# Altium footprint library HFBR-x41xTZ.PcbLib: 1 footprints
Each footprint in its own frame and in the unit in brackets; x right, y up, seen from the top. Pads: shape width x height; smd on the part's side, far side on the other; paste and mask are expansions set on the pad; w line width, h text height; cw(c..) or ccw(c..) is an arc to the next point about the centre after c.
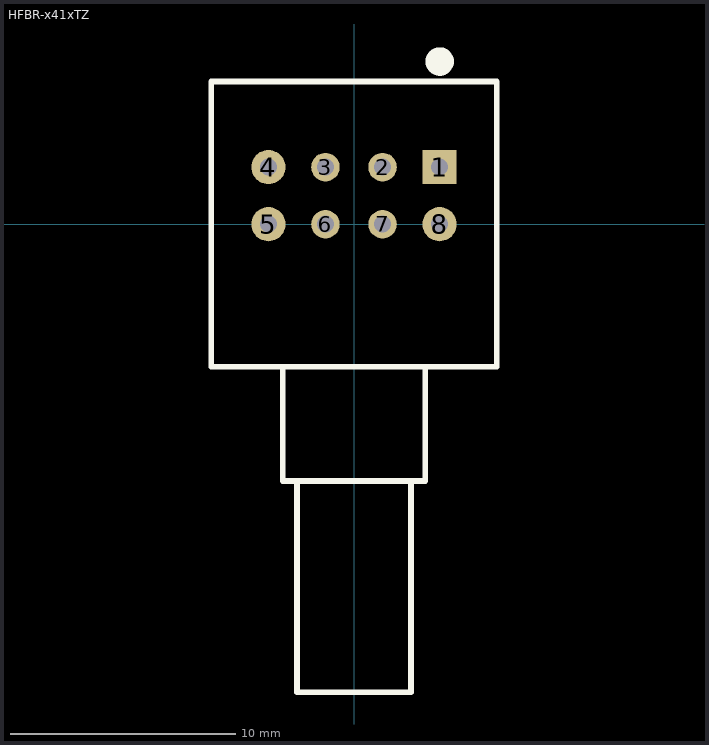
[diagram p0: the footprint, top view; thin cyan lines are the x and y axes]

## HFBR-x41xTZ [mil] "HFBRx41xTZ ST threaded port fiber optic"
height 400
pads (8):
  rect 60x60 hole 30: 1(150,100)
  round 50 hole 30: 2(50,100) 3(-50,100) 6(-50,0) 7(50,0)
  round 60 hole 30: 4(-150,100) 5(-150,0) 8(150,0)
Top Overlay:
  circle w30: c150,285 r10
  lines w10: -125,-250 -125,-450 125,-450 125,-250 ; -100,-450 -100,-820 100,-820 100,-450 110,-450 ; -250,-250 250,-250 250,250 150,250 -150,250 -250,250 -250,-250
3D body: height 411.57, standoff -131.73, extent -249.91,-820.88 249.93,249.99